# EAGLE library part LM2775QDSGTQ1 (library LM2775QDSGTQ1)
IC REG CHARG PUMP 5V 200MA 8WSON
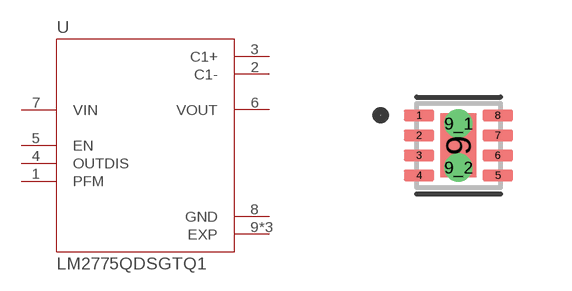
[diagram p0: symbol with the pads of SON50P200X200X80-9N; footprint SON50P200X200X80-9N]

Designator prefix U

## LM2775QDSGTQ1 (Availability: Unavailable; Description: Charge Pump Switching Regulator IC Positive Fixed 5V 1 Output 200mA 8-WDFN Exposed Pad; MF: Texas Instruments; MP: LM2775QDSGTQ1; Package: WDFN-8 Texas Instruments; Price: None)  [SON50P200X200X80-9N]
1  PFM  in
2  C1-  pwr
3  C1+  pwr
4  OUTDIS  in
5  EN  in
6  VOUT  out
7  VIN  in
8  GND  pwr
9  EXP  pwr
9_1  EXP  pwr
9_2  EXP  pwr

## Footprint SON50P200X200X80-9N (pad centres in mm)
smd 0.76 x 0.28: 1 -0.985,0.75; 2 -0.985,0.25; 3 -0.985,-0.25; 4 -0.985,-0.75; 5 0.985,-0.75; 6 0.985,-0.25; 7 0.985,0.25; 8 0.985,0.75
smd 0.9 x 1.6: 9 0,0
drill 0.2 pad 0.3: 9_1 0,0.55; 9_2 0,-0.55